# Altium schematic symbol library MIC29302A.Schlib: 1 symbol
Pins are listed as number, name and electrical type; pins without a type are passive.

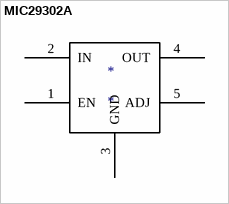
[diagram p0: symbol MIC29302A]

## MIC29302A
designator *
footprint MIC29302A TO252
pins: 1 EN, 2 IN, 3 GND, 4 OUT, 5 ADJ